# EAGLE library part ATUM (library atum)
Atum sensorboard prototyping module.
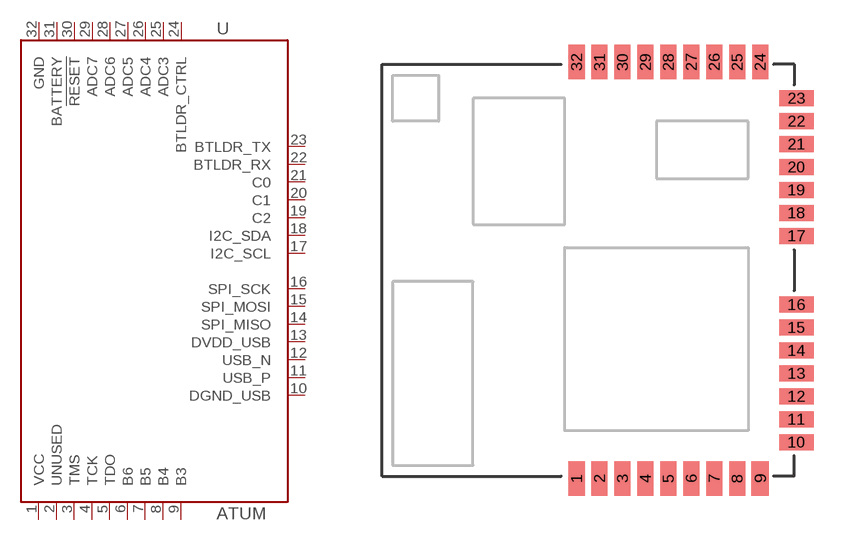
[diagram p1: symbol with the pads of ATUM; footprint ATUM]

Designator prefix U

## ATUM  [ATUM]
1  VCC
2  UNUSED
3  TMS
4  TCK
5  TDO
6  B6
7  B5
8  B4
9  B3
10  DGND_USB
11  USB_P
12  USB_N
13  DVDD_USB
14  SPI_MISO
15  SPI_MOSI
16  SPI_SCK
17  I2C_SCL
18  I2C_SDA
19  C2
20  C1
21  C0
22  BTLDR_RX
23  BTLDR_TX
24  BTLDR_CTRL
25  ADC3
26  ADC4
27  ADC5
28  ADC6
29  ADC7
30  !RESET
31  BATTERY
32  GND

## Footprint ATUM (pad centres in mm)
smd 0.7 x 1.5: 1 -9.479,-9.079; 2 -8.479,-9.079; 3 -7.479,-9.079; 4 -6.479,-9.079; 5 -5.479,-9.079; 6 -4.479,-9.079; 7 -3.479,-9.079; 8 -2.479,-9.079; 24 -1.479,9.079; 25 -2.479,9.079; 26 -3.479,9.079; 27 -4.479,9.079; 28 -5.479,9.079; 29 -6.479,9.079; 30 -7.479,9.079; 31 -8.479,9.079; 32 -9.479,9.079
smd 0.754 x 1.5: 9 -1.479,-9.079
smd 1.5 x 0.7: 10 0.1,-7.5; 11 0.1,-6.5; 12 0.1,-5.5; 13 0.1,-4.5; 14 0.1,-3.5; 15 0.1,-2.5; 16 0.1,-1.5; 17 0.1,1.5; 18 0.1,2.5; 19 0.1,3.5; 20 0.1,4.5; 21 0.1,5.5; 22 0.1,6.5; 23 0.1,7.5